# Altium schematic symbol library ABM3-24.000MHZ-B2-T.Schlib: 1 symbol
Pins are listed as number, name and electrical type; pins without a type are passive.

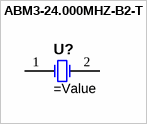
[diagram p0: symbol ABM3-24.000MHZ-B2-T]

## ABM3-24.000MHZ-B2-T
designator U?
CRYSTAL 24.000MHZ 18PF SMD
pins: 1 OSC1, 2 OSC2